# EAGLE library part F09(674-0827) (library TheMaker_con-subd)
D-Sub 9P Female ASSMANN WSW A-DF 09 A/KG-T2 RS 674-0827
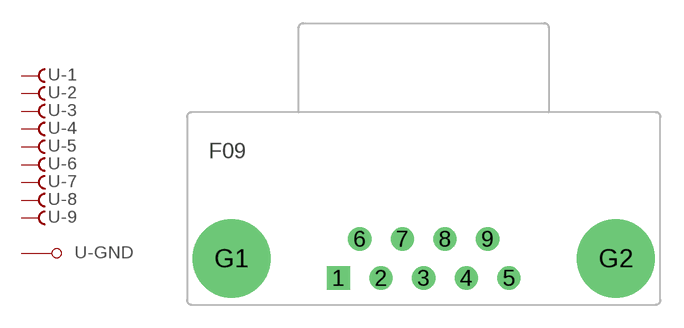
[diagram p75: symbol with the pads of A-DF09A/KG-T2; footprint A-DF09A/KG-T2]

Designator prefix -; gates -1=F -2=F -3=F -4=F -5=F -6=F -7=F -8=F -9=F -GND=G

## F09(674-0827)  [A-DF09A/KG-T2]
1  -1:F  pas
2  -2:F  pas
3  -3:F  pas
4  -4:F  pas
5  -5:F  pas
6  -6:F  pas
7  -7:F  pas
8  -8:F  pas
9  -9:F  pas
G1  -GND:G  pas
G2  -GND:G  pas

## Footprint A-DF09A/KG-T2 (pad centres in mm)
D-Sub 9P Female ASSMANN WSW A-DF 09 A/KG-T2 RS 674-0827
drill 1 square: 1 -5.54,-1.27
drill 1: 2 -2.77,-1.27; 3 0,-1.27; 4 2.77,-1.27; 5 5.54,-1.27; 6 -4.155,1.27; 7 -1.385,1.27; 8 1.385,1.27; 9 4.155,1.27
drill 3.1 pad 5.08: G1 -12.5,0; G2 12.5,0